# EAGLE library part TPS773 (library texas-instruments)
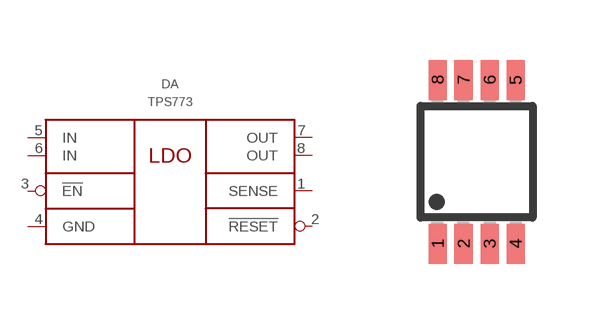
[diagram p26: symbol with the pads of MSOP8; footprint MSOP8]

Designator prefix DA

## TPS77350DGK  [MSOP8]
1  SENSE  in
2  !RESET  out
3  !EN  in
4  GND  pwr
5  IN  pwr
6  IN  pwr
7  OUT  pwr
8  OUT  pwr

## TPS77333DGK  [MSOP8]
Pads as for MSOP8

## TPS77328DGK  [MSOP8]
Pads as for MSOP8

## TPS77327DGK  [MSOP8]
Pads as for MSOP8

## TPS77318DGK  [MSOP8]
Pads as for MSOP8

## TPS77316DGK  [MSOP8]
Pads as for MSOP8

## TPS77315DGK  [MSOP8]
Pads as for MSOP8

## Footprint MSOP8 (pad centres in mm)
Micro Small Outline Package Grid .65mm
smd 0.45 x 1: 1 -0.975,-2.05; 2 -0.325,-2.05; 3 0.325,-2.05; 4 0.975,-2.05; 5 0.975,2.05; 6 0.325,2.05; 7 -0.325,2.05; 8 -0.975,2.05